# Altium integrated library WE-CMB HC Common Mode Power Line Choke.IntLib: 4 symbols
Pins are listed as number, name and electrical type; pins without a type are passive.

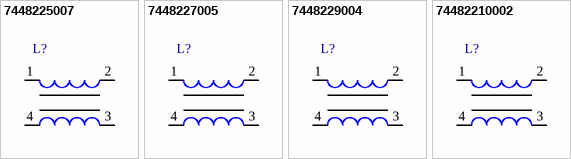
[diagram p0: symbols 7448225007 to 74482210002]

## 7448225007
designator L?
THT Common Mode Power Line Choke WE-CMB HC, L = 700 µH; PartNumber: 7448225007; Inductance: 700 µH; DatasheetVersion: ver 1, Jan-2009; PackageReference: WE-CMB-HC-S; PackageDescription: THT Inductor, 4-Leads, Body 18.5 x 14.5 mm; ComponentLink1Description: Manufacturer URL; ComponentLink1URL: http://www.we-online.com; ComponentLink2Description: Datasheet; ComponentLink2URL: http://www.we-online.de/katalog/media/pdf/7448225007.pdf
footprint WE-CMB-HC-S (THT Inductor, 4-Leads, Body 18.5x14.5x22.0 mm)
pins: 1, 2, 3, 4

## 7448227005
designator L?
THT Common Mode Power Line Choke WE-CMB HC, L = 450 µH; PartNumber: 7448227005; Inductance: 450 µH; DatasheetVersion: ver 1, Jan-2009; PackageReference: WE-CMB-HC-S; PackageDescription: THT Inductor, 4-Leads, Body 18.5 x 14.5 mm; ComponentLink1Description: Manufacturer URL; ComponentLink1URL: http://www.we-online.com; ComponentLink2Description: Datasheet; ComponentLink2URL: http://www.we-online.de/katalog/media/pdf/7448227005.pdf
footprint WE-CMB-HC-S (THT Inductor, 4-Leads, Body 18.5x14.5x22.0 mm)
pins: 1, 2, 3, 4

## 7448229004
designator L?
THT Common Mode Power Line Choke WE-CMB HC, L = 350 µH; PartNumber: 7448229004; Inductance: 350 µH; DatasheetVersion: ver 1, Jan-2009; PackageReference: WE-CMB-HC-S; PackageDescription: THT Inductor, 4-Leads, Body 18.5 x 14.5 mm; ComponentLink1Description: Manufacturer URL; ComponentLink1URL: http://www.we-online.com; ComponentLink2Description: Datasheet; ComponentLink2URL: http://www.we-online.de/katalog/media/pdf/7448229004.pdf
footprint WE-CMB-HC-S (THT Inductor, 4-Leads, Body 18.5x14.5x22.0 mm)
pins: 1, 2, 3, 4

## 74482210002
designator L?
THT Common Mode Power Line Choke WE-CMB HC, L = 175 µH; PartNumber: 74482210002; Inductance: 175 µH; DatasheetVersion: ver 1, Jan-2009; PackageReference: WE-CMB-HC-S; PackageDescription: THT Inductor, 4-Leads, Body 18.5 x 14.5 mm; ComponentLink1Description: Manufacturer URL; ComponentLink1URL: http://www.we-online.com; ComponentLink2Description: Datasheet; ComponentLink2URL: http://www.we-online.de/katalog/media/pdf/74482210002.pdf
footprint WE-CMB-HC-S (THT Inductor, 4-Leads, Body 18.5x14.5x22.0 mm)
pins: 1, 2, 3, 4